# Altium footprint library RESC6332X70N.PcbLib: 1 footprints
Each footprint in its own frame and in the unit in brackets; x right, y up, seen from the top. Pads: shape width x height; smd on the part's side, far side on the other; paste and mask are expansions set on the pad; w line width, h text height; cw(c..) or ccw(c..) is an arc to the next point about the centre after c.
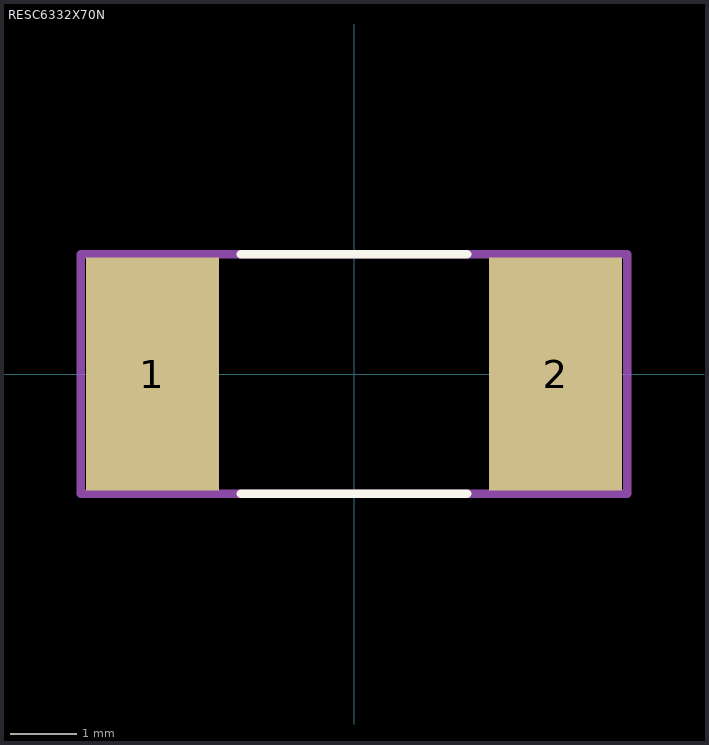
[diagram p0: the footprint, top view; thin cyan lines are the x and y axes]

## RESC6332X70N [mm]
pads (2):
  rect 2x3.5 smd: 1(-3.025,0) 2(3.025,0)
Top Overlay:
  lines w0.127: -1.7,-1.8 1.7,-1.8 ; -1.7,1.8 1.7,1.8
Assembly Top:
  lines w0.127: -4.1,-1.8 -4.1,1.8 4.1,1.8 4.1,-1.8 -4.1,-1.8
3D body: height 0.25, standoff 0, extent -4.1,-1.8 4.04,1.8